# EAGLE library part STSPIN32F0 (library LARS_409_MK)
The STSPIN32F0 is a System-In-Package providing an integrated solution suitable for driving three-phase BLDC motors using different driving modes.
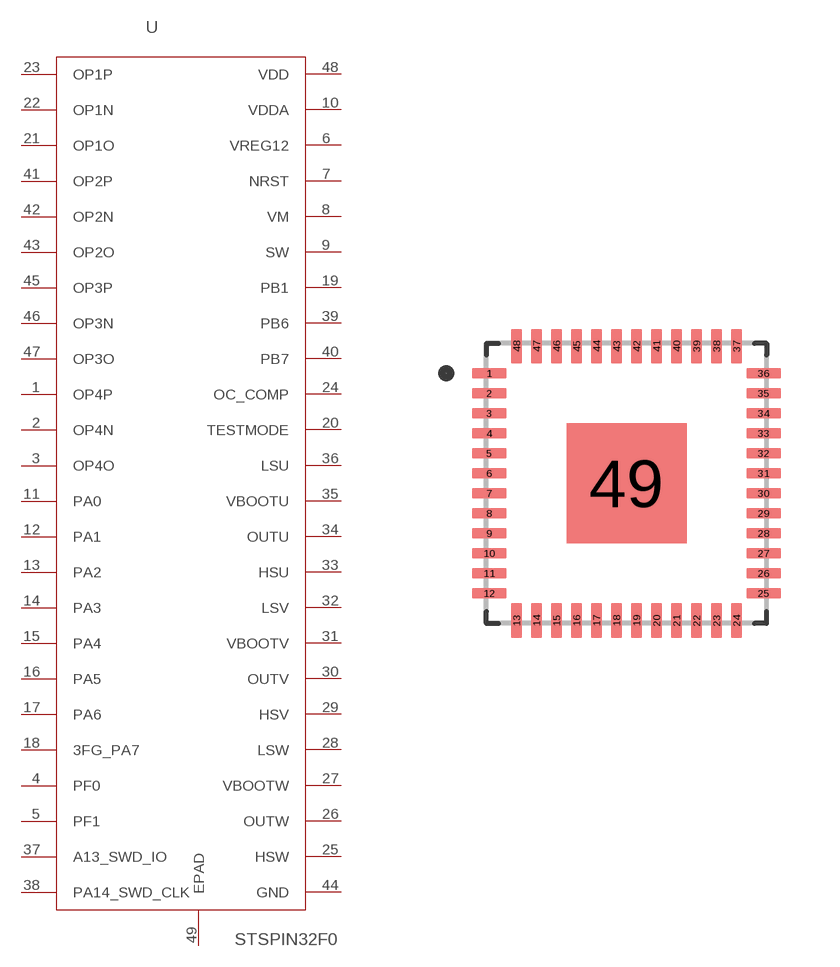
[diagram p5: symbol with the pads of QFN48; footprint QFN48]

Designator prefix U

## STSPIN32F0 (MP: STSPIN32)  [QFN48]
1  OP4P
2  OP4N
3  OP4O
4  PF0
5  PF1
6  VREG12
7  NRST
8  VM
9  SW
10  VDDA
11  PA0
12  PA1
13  PA2
14  PA3
15  PA4
16  PA5
17  PA6
18  3FG_PA7
19  PB1
20  TESTMODE
21  OP1O
22  OP1N
23  OP1P
24  OC_COMP
25  HSW
26  OUTW
27  VBOOTW
28  LSW
29  HSV
30  OUTV
31  VBOOTV
32  LSV
33  HSU
34  OUTU
35  VBOOTU
36  LSU
37  A13_SWD_IO
38  PA14_SWD_CLK
39  PB6
40  PB7
41  OP2P
42  OP2N
43  OP2O
44  GND
45  OP3P
46  OP3N
47  OP3O
48  VDD
49  EPAD

## Footprint QFN48 (pad centres in mm)
smd 0.87 x 0.27: 1 -3.43,2.75; 2 -3.43,2.25; 3 -3.43,1.75; 4 -3.43,1.25; 5 -3.43,0.75; 6 -3.43,0.25; 7 -3.43,-0.25; 8 -3.43,-0.75; 9 -3.43,-1.25; 10 -3.43,-1.75; 11 -3.43,-2.25; 12 -3.43,-2.75; 25 3.43,-2.75; 26 3.43,-2.25; 27 3.43,-1.75; 28 3.43,-1.25; 29 3.43,-0.75; 30 3.43,-0.25; 31 3.43,0.25; 32 3.43,0.75; 33 3.43,1.25; 34 3.43,1.75; 35 3.43,2.25; 36 3.43,2.75
smd 0.27 x 0.87: 13 -2.75,-3.43; 14 -2.25,-3.43; 15 -1.75,-3.43; 16 -1.25,-3.43; 17 -0.75,-3.43; 18 -0.25,-3.43; 19 0.25,-3.43; 20 0.75,-3.43; 21 1.25,-3.43; 22 1.75,-3.43; 23 2.25,-3.43; 24 2.75,-3.43; 37 2.75,3.43; 38 2.25,3.43; 39 1.75,3.43; 40 1.25,3.43; 41 0.75,3.43; 42 0.25,3.43; 43 -0.25,3.43; 44 -0.75,3.43; 45 -1.25,3.43; 46 -1.75,3.43; 47 -2.25,3.43; 48 -2.75,3.43
smd 3 x 3: 49 0,0